# Altium schematic symbol library SCH - OPAMP - TI TLV274QPWRG4Q1.Schlib: 1 symbol
Pins are listed as number, name and electrical type; pins without a type are passive.

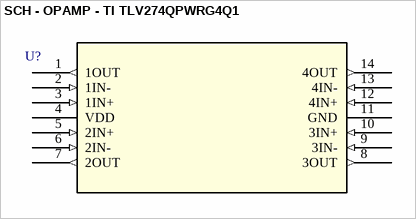
[diagram p0: symbol SCH - OPAMP - TI TLV274QPWRG4Q1]

## SCH - OPAMP - TI TLV274QPWRG4Q1
designator U?
footprint D0014A_N
pins: 1 1OUT (out), 2 1IN- (in), 3 1IN+ (in), 4 VDD (power), 5 2IN+ (in), 6 2IN- (in), 7 2OUT (out), 8 3OUT (out), 9 3IN- (in), 10 3IN+ (in), 11 GND (power), 12 4IN+ (in), 13 4IN- (in), 14 4OUT (out)